# EAGLE library part MDSTB10 (library con-phoenix-508)
PHOENIX
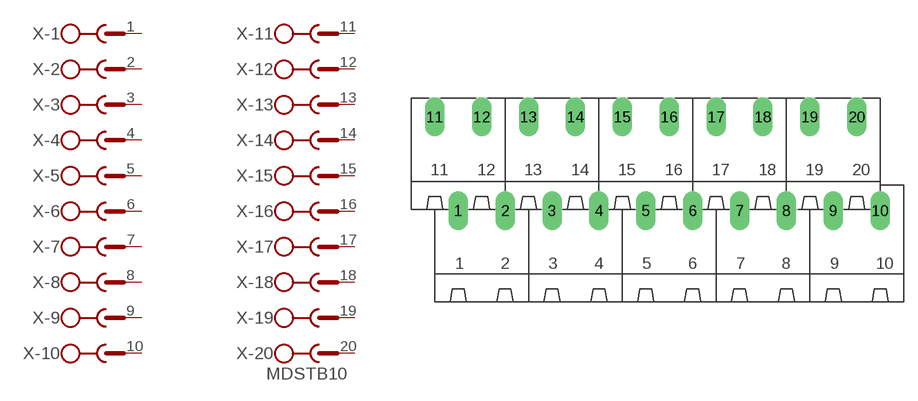
[diagram p36: symbol with the pads of MDSTB10; footprint MDSTB10]

Designator prefix X; gates -1=SK -2=SK -3=SK -4=SK -5=SK -6=SK -7=SK -8=SK -9=SK -10=SK -11=SK -12=SK -13=SK -14=SK -15=SK -16=SK -17=SK -18=SK -19=SK -20=SKV

## MDSTB10 (OC_FARNELL: unknown; OC_NEWARK: unknown)  [MDSTB10]
1  -1:1  pas
2  -2:1  pas
3  -3:1  pas
4  -4:1  pas
5  -5:1  pas
6  -6:1  pas
7  -7:1  pas
8  -8:1  pas
9  -9:1  pas
10  -10:1  pas
11  -11:1  pas
12  -12:1  pas
13  -13:1  pas
14  -14:1  pas
15  -15:1  pas
16  -16:1  pas
17  -17:1  pas
18  -18:1  pas
19  -19:1  pas
20  -20:1  pas

## Footprint MDSTB10 (pad centres in mm)
PHOENIX
drill 1.397 long: 1 -21.59,-5.08; 2 -16.51,-5.08; 3 -11.43,-5.08; 4 -6.35,-5.08; 5 -1.27,-5.08; 6 3.81,-5.08; 7 8.89,-5.08; 8 13.97,-5.08; 9 19.05,-5.08; 10 24.13,-5.08; 11 -24.13,5.08; 12 -19.05,5.08; 13 -13.97,5.08; 14 -8.89,5.08; 15 -3.81,5.08; 16 1.27,5.08; 17 6.35,5.08; 18 11.43,5.08; 19 16.51,5.08; 20 21.59,5.08